# EAGLE library part 50224-014 (library con-aces-50224-series)
ACES CONNECTORS 50224 SERIES Aces Connectors 50224 <https://www.acesconn.com/tw/series/50224-xxxxx-xxx/3165>
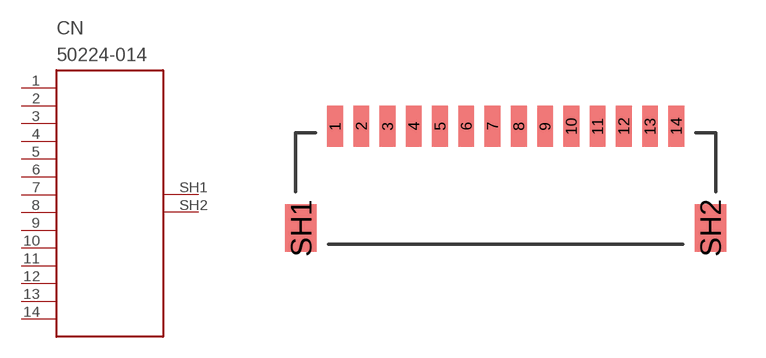
[diagram p10: symbol with the pads of 50224-014; footprint 50224-014]

Designator prefix CN

## 50224-014  [50224-014]
1  1
2  2
3  3
4  4
5  5
6  6
7  7
8  8
9  9
10  10
11  11
12  12
13  13
14  14
SH1  SH1
SH2  SH2

## Footprint 50224-014 (pad centres in mm)
smd 0.6 x 1.55: 1 -6.5,0; 2 -5.5,0; 3 -4.5,0; 4 -3.5,0; 5 -2.5,0; 6 -1.5,0; 7 -0.5,0; 8 0.5,0; 9 1.5,0; 10 2.5,0; 11 3.5,0; 12 4.5,0; 13 5.5,0; 14 6.5,0
smd 1.2 x 1.8: SH1 -7.8,-3.875; SH2 7.8,-3.875